# EAGLE library part MC14044BDR2G (library mccloud)
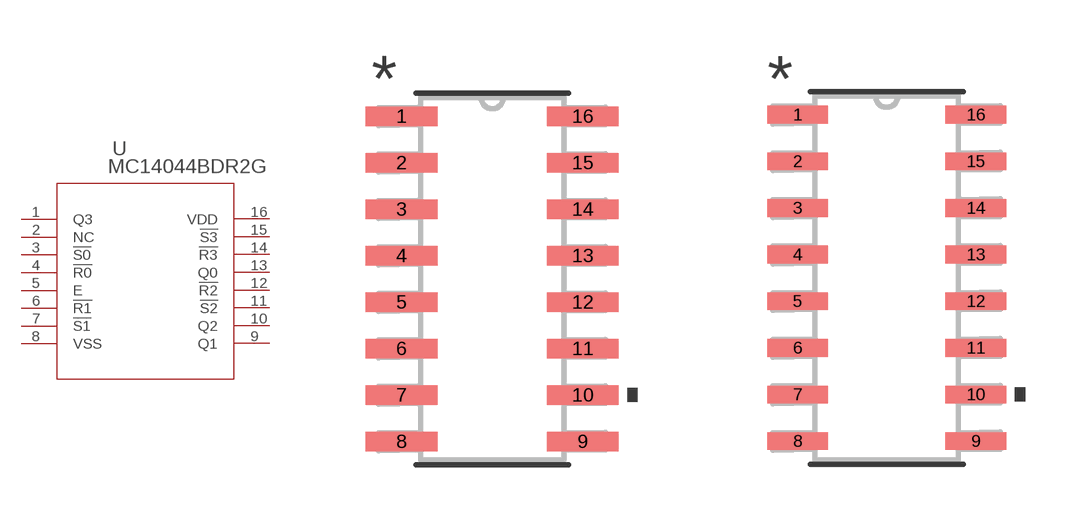
[diagram p3: symbol with the pads of SOIC-16; footprints SOIC-16, SOIC-16-L]

Designator prefix U

## MC14044BDR2G (MANUFACTURER_PART_NUMBER: MC14044BDR2G; VENDOR: ON Semiconductor)  [SOIC-16]
1  Q3  out
2  NC  nc
3  !S0  pas
4  !R0  pas
5  E  pas
6  !R1  pas
7  !S1  pas
8  VSS  pwr
9  Q1  out
10  Q2  out
11  !S2  pas
12  !R2  pas
13  Q0  out
14  !R3  pas
15  !S3  pas
16  VDD  pwr

## MC14044BDR2GSOIC-16-L (MANUFACTURER_PART_NUMBER: MC14044BDR2G; VENDOR: ON Semiconductor)  [SOIC-16-L]
Pads as for SOIC-16

## MC14044BDR2GSOIC-16-M (MANUFACTURER_PART_NUMBER: MC14044BDR2G; VENDOR: ON Semiconductor)  [SOIC-16-M]
Pads as for SOIC-16

## Footprint SOIC-16 (pad centres in mm)
smd 1.956 x 0.533: 1 -2.477,4.445; 2 -2.477,3.175; 3 -2.477,1.905; 4 -2.477,0.635; 5 -2.477,-0.635; 6 -2.477,-1.905; 7 -2.477,-3.175; 8 -2.477,-4.445; 9 2.477,-4.445; 10 2.477,-3.175; 11 2.477,-1.905; 12 2.477,-0.635; 13 2.477,0.635; 14 2.477,1.905; 15 2.477,3.175; 16 2.477,4.445

## Footprint SOIC-16-L (pad centres in mm)
smd 1.651 x 0.483: 1 -2.426,4.445; 2 -2.426,3.175; 3 -2.426,1.905; 4 -2.426,0.635; 5 -2.426,-0.635; 6 -2.426,-1.905; 7 -2.426,-3.175; 8 -2.426,-4.445; 9 2.426,-4.445; 10 2.426,-3.175; 11 2.426,-1.905; 12 2.426,-0.635; 13 2.426,0.635; 14 2.426,1.905; 15 2.426,3.175; 16 2.426,4.445

## Footprint SOIC-16-M (pad centres in mm)
smd 2.261 x 0.584: 1 -2.527,4.445; 2 -2.527,3.175; 3 -2.527,1.905; 4 -2.527,0.635; 5 -2.527,-0.635; 6 -2.527,-1.905; 7 -2.527,-3.175; 8 -2.527,-4.445; 9 2.527,-4.445; 10 2.527,-3.175; 11 2.527,-1.905; 12 2.527,-0.635; 13 2.527,0.635; 14 2.527,1.905; 15 2.527,3.175; 16 2.527,4.445